# Altium footprint library BH9V3P.PcbLib: 1 footprints
Each footprint in its own frame and in the unit in brackets; x right, y up, seen from the top. Pads: shape width x height; smd on the part's side, far side on the other; paste and mask are expansions set on the pad; w line width, h text height; cw(c..) or ccw(c..) is an arc to the next point about the centre after c.
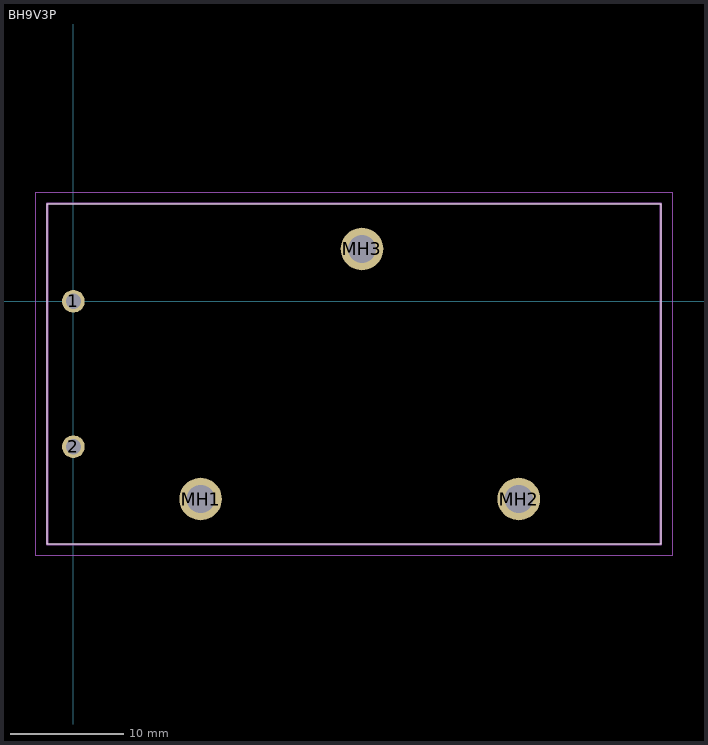
[diagram p0: the footprint, top view; thin cyan lines are the x and y axes]

## BH9V3P [mm]
pads (5):
  round 1.995 hole 1.33: 1(0,0) 2(0,-12.8)
  round 3.75 hole 2.5: MH1(11.2,-17.4) MH2(39.2,-17.4) MH3(25.4,4.6)
Top Overlay:
  lines w0.1: -2.3,-21.4 51.7,-21.4 51.7,8.6 -2.3,8.6 -2.3,-21.4
Mechanical 15:
  lines w0.2: -2.3,-21.4 51.7,-21.4 51.7,8.6 -2.3,8.6 -2.3,-21.4
Mechanical 20:
  lines w0.1: -3.3,-22.4 52.7,-22.4 52.7,9.6 -3.3,9.6 -3.3,-22.4